# Altium schematic symbol library test_point.SchLib: 1 symbol
Pins are listed as number, name and electrical type; pins without a type are passive.

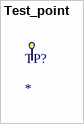
[diagram p0: symbol Test_point]

## Test_point
designator TP?
Parameter 1: Test point
footprint Test_point
pins: TP? Test point